# EAGLE library part FH23-39S-0.3SHAW (library FH23-39S-0.3SHAW)
FH23-39S-0.3SHAW
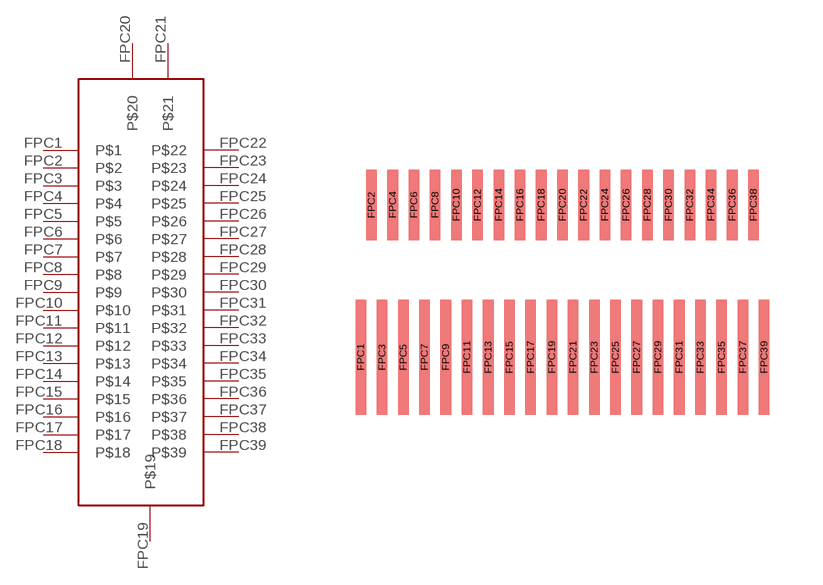
[diagram p0: symbol with the pads of FH23-39S-0.3SHAW; footprint FH23-39S-0.3SHAW]

Designator prefix -

## FH23-39S-0.3SHAW  [FH23-39S-0.3SHAW]
FPC1  P$1
FPC2  P$2
FPC3  P$3
FPC4  P$4
FPC5  P$5
FPC6  P$6
FPC7  P$7
FPC8  P$8
FPC9  P$9
FPC10  P$10
FPC11  P$11
FPC12  P$12
FPC13  P$13
FPC14  P$14
FPC15  P$15
FPC16  P$16
FPC17  P$17
FPC18  P$18
FPC19  P$19
FPC20  P$20
FPC21  P$21
FPC22  P$22
FPC23  P$23
FPC24  P$24
FPC25  P$25
FPC26  P$26
FPC27  P$27
FPC28  P$28
FPC29  P$29
FPC30  P$30
FPC31  P$31
FPC32  P$32
FPC33  P$33
FPC34  P$34
FPC35  P$35
FPC36  P$36
FPC37  P$37
FPC38  P$38
FPC39  P$39

## Footprint FH23-39S-0.3SHAW (pad centres in mm)
smd 0.3 x 3.25: FPC1 -0.3,-0.5; FPC3 0.3,-0.5; FPC5 0.9,-0.5; FPC7 1.5,-0.5; FPC9 2.1,-0.5; FPC11 2.7,-0.5; FPC13 3.3,-0.5; FPC15 3.9,-0.5; FPC17 4.5,-0.5; FPC19 5.1,-0.5; FPC21 5.7,-0.5; FPC23 6.3,-0.5; FPC25 6.9,-0.5; FPC27 7.5,-0.5; FPC29 8.1,-0.5; FPC31 8.7,-0.5; FPC33 9.3,-0.5; FPC35 9.9,-0.5; FPC37 10.5,-0.5; FPC39 11.1,-0.5
smd 0.3 x 2: FPC2 0,3.805; FPC4 0.6,3.805; FPC6 1.2,3.805; FPC8 1.8,3.805; FPC10 2.4,3.805; FPC12 3,3.805; FPC14 3.6,3.805; FPC16 4.2,3.805; FPC18 4.8,3.805; FPC20 5.4,3.805; FPC22 6,3.805; FPC24 6.6,3.805; FPC26 7.2,3.805; FPC28 7.8,3.805; FPC30 8.4,3.805; FPC32 9,3.805; FPC34 9.6,3.805; FPC36 10.2,3.805; FPC38 10.8,3.805